# Altium schematic symbol library NPN3.Schlib: 1 symbol
Pins are listed as number, name and electrical type; pins without a type are passive.

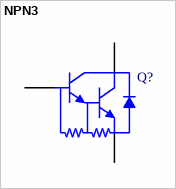
[diagram p0: symbol NPN3]

## NPN3
designator Q?
NPN Darlington Bipolar Transistor
pins: 1 C, 2 B, 3 E